# EAGLE library part IC_ADS7924 (library akita)
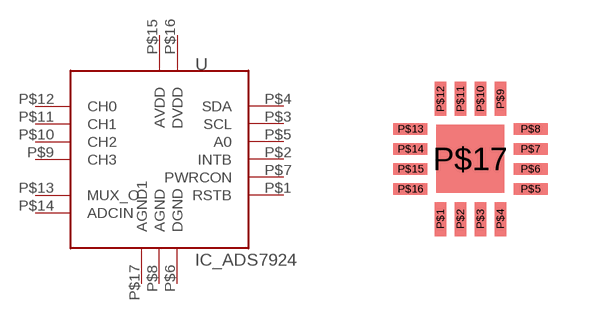
[diagram p105: symbol with the pads of QFN16; footprint QFN16]

Designator prefix -

## IC_ADS7924  [QFN16]
P$1  RSTB
P$2  INTB
P$3  SCL
P$4  SDA
P$5  A0
P$6  DGND
P$7  PWRCON
P$8  AGND
P$9  CH3
P$10  CH2
P$11  CH1
P$12  CH0
P$13  MUX_O
P$14  ADCIN
P$15  AVDD
P$16  DVDD
P$17  AGND1

## Footprint QFN16 (pad centres in mm)
smd 0.28 x 0.85: P$1 -0.75,-1.5; P$2 -0.25,-1.5; P$3 0.25,-1.5; P$4 0.75,-1.5; P$9 0.75,1.5; P$10 0.25,1.5; P$11 -0.25,1.5; P$12 -0.75,1.5
smd 0.85 x 0.28: P$5 1.5,-0.75; P$6 1.5,-0.25; P$7 1.5,0.25; P$8 1.5,0.75; P$13 -1.5,0.75; P$14 -1.5,0.25; P$15 -1.5,-0.25; P$16 -1.5,-0.75
smd 1.7 x 1.7: P$17 0,0